# EAGLE library part SN74LVC1T45DBV (library misc)
Single-Bit Dual-Supply Bus Transceiver With Configurable Voltage Translation and 3-State Outputs
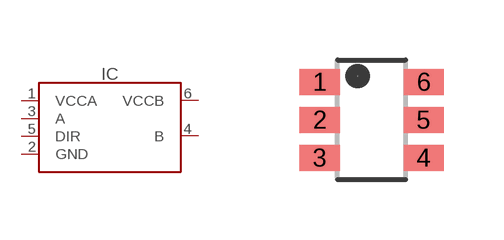
[diagram p48: symbol with the pads of SOT23-6; footprint SOT23-6]

Designator prefix IC

## SN74LVC1T45DBV (MANF: Texas Instruments; MANF#: SN74LVC1T45DBV)  [SOT23-6]
1  VCCA
2  GND
3  A
4  B
5  DIR
6  VCCB

## Footprint SOT23-6 (pad centres in mm)
smd 1 x 0.65: 1 -1.3,0.95; 2 -1.3,0; 3 -1.3,-0.95; 4 1.3,-0.95; 5 1.3,0; 6 1.3,0.95